# Altium footprint library Atmaca.PcbLib: 22 footprints (part 2 of 2)
Each footprint in its own frame and in the unit in brackets; x right, y up, seen from the top. Pads: shape width x height; smd on the part's side, far side on the other; paste and mask are expansions set on the pad; w line width, h text height; cw(c..) or ccw(c..) is an arc to the next point about the centre after c.
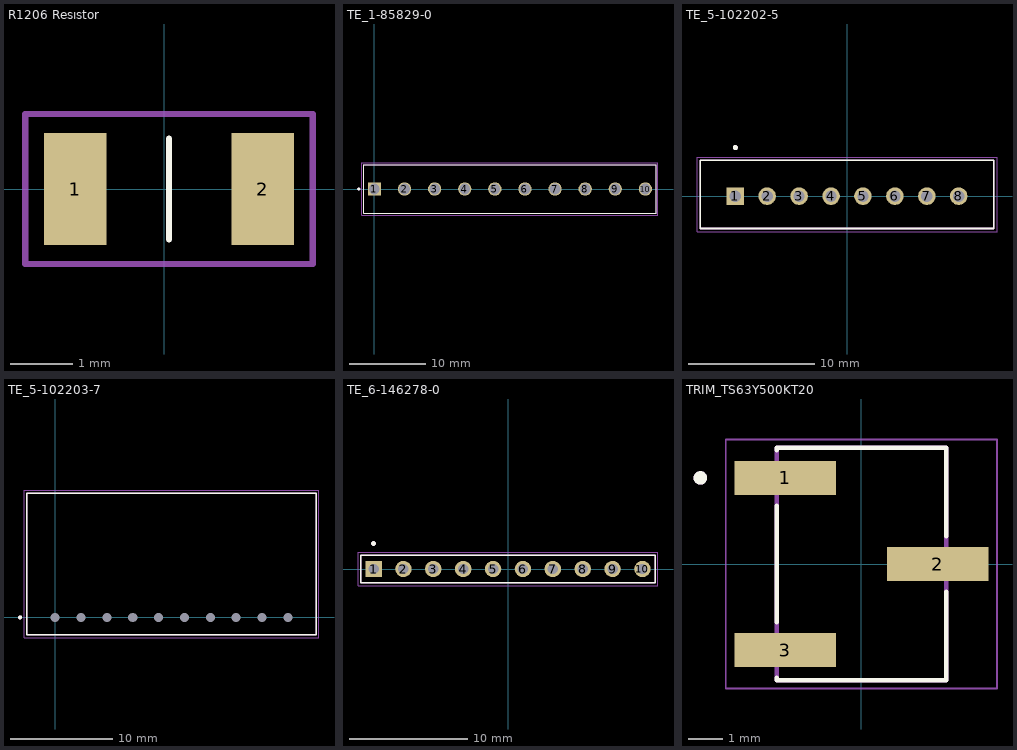
[diagram p1: the footprints below, top view; thin cyan lines are the x and y axes]

## R1206 Resıstor [mm]
pads (2):
  rect 1x1.8 smd mask+0.05: 1(-1.425,0) 2(1.575,0)
Top Overlay:
  lines w0.1: 0.075,-0.805 0.075,0.805
Mechanical 3:
  lines w0.1: -2.225,-1.2 2.375,-1.2 2.375,1.2 -2.225,1.2 -2.225,-1.2
3D body "1206RES.step": height 0.55, standoff 0, extent -1.525,-0.805 1.675,0.805

## TE_1-85829-0 [mm]
pads (10):
  rect 1.75x1.75 hole 1.4: 1(0,0)
  round 1.75 hole 1.4: 2(3.96,0) 3(7.92,0) 4(11.88,0) 5(15.84,0) 6(19.8,0) 7(23.76,0) 8(27.72,0) 9(31.68,0) 10(35.64,0)
Top Overlay:
  circle w0.2: c-2.06,0 r0.1
  lines w0.127: -1.41,-3.175 -1.41,3.175 37.05,3.175 37.05,-3.175 -1.41,-3.175
Mechanical 13:
  circle w0.2: c-2.06,0 r0.1
  lines w0.127: -1.41,-3.175 -1.41,3.175 37.05,3.175 37.05,-3.175 ; -1.41,-3.175 37.05,-3.175 ; -1.41,-3.175 37.05,-3.175
Mechanical 15:
  lines w0.05: -1.66,-3.425 -1.66,3.425 37.3,3.425 37.3,-3.425 -1.66,-3.425
3D body "step_temp.STEP": height 3.17, standoff -3.17, extent -1.333,-9.779 37.148,6.858

## TE_5-102202-5 [mm]
pads (8):
  rect 1.398x1.398 hole 0.89: 1(-8.89,0)
  round 1.398 hole 0.89: 2(-6.35,0) 3(-3.81,0) 4(-1.27,0) 5(1.27,0) 6(3.81,0) 7(6.35,0) 8(8.89,0)
Top Overlay:
  circle w0.2: c-8.89,3.87 r0.1
  lines w0.127: -11.685,-2.57 -11.685,2.87 11.685,2.87 11.685,-2.57 -11.685,-2.57
Mechanical 13:
  circle w0.2: c-8.89,3.87 r0.1
  lines w0.127: -11.685,-2.57 -11.685,2.87 11.685,2.87 11.685,-2.57 -11.685,-2.57
Mechanical 15:
  lines w0.05: -11.935,-2.82 -11.935,3.12 11.935,3.12 11.935,-2.82 -11.935,-2.82
3D body "step_temp.STEP": height 2.72, standoff -3.04, extent -11.684,0 11.684,17.247

## TE_5-102203-7 [mil]
pads (10):
  rect 0x0 hole 35: 1(0,0)
  round 0 hole 35: 2(100,0) 3(200,0) 4(300,0) 5(400,0) 6(500,0) 7(600,0) 8(700,0) 9(800,0) 10(900,0)
Top Overlay:
  circle w7.87: c-135.83,0 r3.94
  lines w5: -110.24,-67.99 1010.24,-67.99 1010.24,480.98 -110.24,480.98 -110.24,-67.99
Mechanical 13:
  circle w7.87: c-135.83,0 r3.94
  lines w5: -110.24,-67.99 1010.24,-67.99 ; -110.24,-67.99 1010.24,-67.99 ; -110.24,-67.99 -110.24,480.98 1010.24,480.98 1010.24,-67.99
Mechanical 15:
  lines w1.97: -120.08,-77.83 1020.08,-77.83 1020.08,490.83 -120.08,490.83 -120.08,-77.83
3D body "step_temp.STEP": height 107, standoff -217, extent -560,0 560,549

## TE_6-146278-0 [mm]
pads (10):
  rect 1.398x1.398 hole 0.89: 1(-11.43,0)
  round 1.398 hole 0.89: 2(-8.89,0) 3(-6.35,0) 4(-3.81,0) 5(-1.27,0) 6(1.27,0) 7(3.81,0) 8(6.35,0) 9(8.89,0) 10(11.43,0)
Top Overlay:
  circle w0.2: c-11.43,2.17 r0.1
  lines w0.127: -12.5,-1.17 12.5,-1.17 12.5,1.17 -12.5,1.17 -12.5,-1.17
Mechanical 13:
  circle w0.2: c-11.43,2.17 r0.1
  lines w0.127: -12.5,-1.17 12.5,-1.17 12.5,1.17 -12.5,1.17 -12.5,-1.17
Mechanical 15:
  lines w0.05: -12.75,-1.42 12.75,-1.42 12.75,1.42 -12.75,1.42 -12.75,-1.42
3D body "step_temp.STEP": height 1.17, standoff -1.17, extent -12.497,-5.842 12.497,5.334

## TRIM_TS63Y500KT20 [mm]
pads (3):
  rect 3x1 smd: 1(-2.25,2.54) 2(2.25,0) 3(-2.25,-2.54)
Top Overlay:
  circle w0.2: c-4.75,2.54 r0.1
  lines w0.127: -2.5,-3.36 -2.5,-3.425 2.5,-3.425 2.5,-0.82 ; -2.5,-1.72 -2.5,1.72 ; -2.5,3.36 -2.5,3.425 2.5,3.425 2.5,0.82
Mechanical 13:
  circle w0.2: c-4.75,2.54 r0.1
  lines w0.127: -2.5,-3.425 -2.5,3.425 2.5,3.425 2.5,-3.425 -2.5,-3.425
Mechanical 15:
  lines w0.05: -4,-3.675 -4,3.675 4,3.675 4,-3.675 -4,-3.675
3D body "step_temp.STEP": height 8, standoff 0, extent -3.35,-3.425 3.35,3.425